# Altium footprint library PcbLib1.PcbLib: 2 footprints
Each footprint in its own frame and in the unit in brackets; x right, y up, seen from the top. Pads: shape width x height; smd on the part's side, far side on the other; paste and mask are expansions set on the pad; w line width, h text height; cw(c..) or ccw(c..) is an arc to the next point about the centre after c.
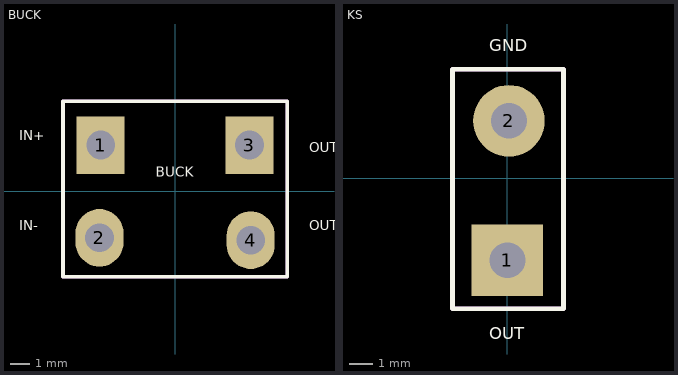
[diagram p0: the footprints below, top view; thin cyan lines are the x and y axes]

## BUCK [mm]
pads (4):
  rect 2.5x3 hole 1.5: 1(-3.873,2.413) 3(3.873,2.413)
  oval 2.5x3 hole 1.5: 2(-3.937,-2.413) 4(3.937,-2.54)
Top Overlay:
  lines w0.2: -5.842,-4.445 5.842,-4.445 5.842,4.699 -5.842,4.699 -5.842,-4.445
  text "BUCK" at -1.016,0.762 h0.51
  text "IN+" at -8.128,2.667 h0.51
  text "IN-" at -8.128,-2.032 h0.51
  text "OUT+" at 6.985,2.032 h0.51
  text "OUT-" at 6.985,-2.032 h0.51
Mechanical 1:
  lines w0.2: -5.842,-4.445 5.842,-4.445 5.842,4.699 -5.842,4.699 -5.842,-4.445
  text ".Designator" at -0.381,2.879 h1.02
  text ".Designator" at -0.381,2.879 h1.02

## KS [mm]
pads (2):
  rect 3x3 hole 1.5: 1(0,-3.429)
  round 3 hole 1.5: 2(0.064,2.413)
Top Overlay:
  lines w0.2: -2.301,-5.461 -2.301,4.572 2.349,4.572 2.349,-5.461 -2.301,-5.461
  text "GND" at -0.762,5.334 h0.51
  text "OUT" at -0.762,-6.731 h0.51
Mechanical 1:
  lines w0.2: -2.301,-5.461 -2.301,4.572 2.349,4.572 2.349,-5.461 -2.301,-5.461
  text ".Designator" at -0.254,-0.296 h1.02